# EAGLE library part NJM4580 (library OP_s)
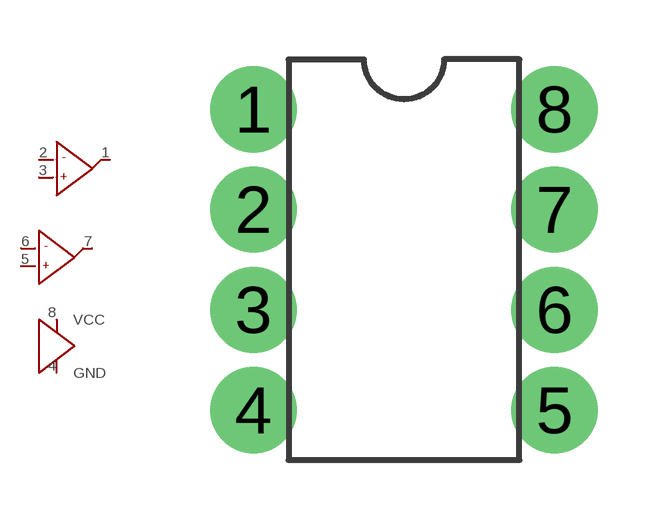
[diagram p0: symbol with the pads of NJM4580; footprint NJM4580]

Designator prefix -; gates G$1=OP_A G$2=OP_B G$3=OP_VCC

## NJM4580  [NJM4580]
1  G$1:AOUT
2  G$1:A-
3  G$1:A+
4  G$3:GND  sup
5  G$2:B+
6  G$2:B-
7  G$2:BOUT
8  G$3:VCC  sup

## Footprint NJM4580 (pad centres in mm)
drill 1 pad 2.184 round: 1 -3.81,3.81; 2 -3.81,1.27; 3 -3.81,-1.27; 4 -3.81,-3.81; 5 3.81,-3.81; 6 3.81,-1.27; 7 3.81,1.27; 8 3.81,3.81